# EAGLE library part MAX485_2PIN (library FansElectronics-Modul)
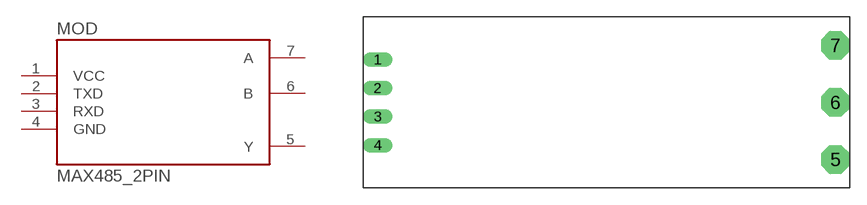
[diagram p21: symbol with the pads of MAX485_2PIN; footprint MAX485_2PIN]

Designator prefix MOD

## MAX485_2PIN  [MAX485_2PIN]
1  VCC  pwr
2  TXD
3  RXD
4  GND  pwr
5  Y  pwr
6  B
7  A

## Footprint MAX485_2PIN (pad centres in mm)
drill 0.8 long: 1 -8.89,2.54; 2 -8.89,0; 3 -8.89,-2.54; 4 -8.89,-5.08
drill 1 pad 2.54 octagon: 5 31.75,-6.35; 6 31.75,-1.27; 7 31.75,3.81